# EAGLE library part DISP_EINK_SHARPMEMORYLCD_10PIN (library microbuilder)
Sharp Mono Memory LCD LS013B4DN02 - 1.35" 96x96 Pixels LS027B7DH01 - 2.7" 400x240 Pixels
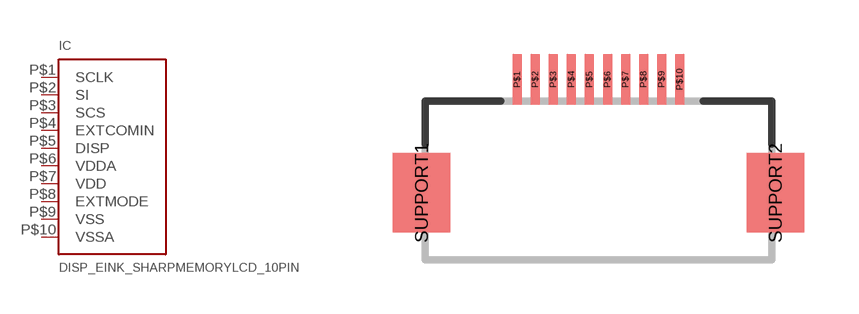
[diagram p129: symbol with the pads of FPC_10PIN_52892-1095; footprint FPC_10PIN_52892-1095]

Designator prefix IC

## DISP_EINK_SHARPMEMORYLCD_10PIN  [FPC_10PIN_52892-1095]
P$1  SCLK  in
P$2  SI  in
P$3  SCS  in
P$4  EXTCOMIN  in
P$5  DISP  in
P$6  VDDA  pwr
P$7  VDD  pwr
P$8  EXTMODE  in
P$9  VSS  pwr
P$10  VSSA  pwr

## Footprint FPC_10PIN_52892-1095 (pad centres in mm)
Source: http://www.molex.com/pdm_docs/sd/528921095_sd.pdf
smd 0.25 x 1.4: P$1 -2.25,0; P$2 -1.75,0; P$3 -1.25,0; P$4 -0.75,0; P$5 -0.25,0; P$6 0.25,0; P$7 0.75,0; P$8 1.25,0; P$9 1.75,0; P$10 2.25,0
smd 1.6 x 2.2: SUPPORT1 -4.9,-3.15; SUPPORT2 4.9,-3.15